# Altium integrated library Linear Technology Power Management LDO Linear Regulators.IntLib: 2339 symbols (part 120 of 131)
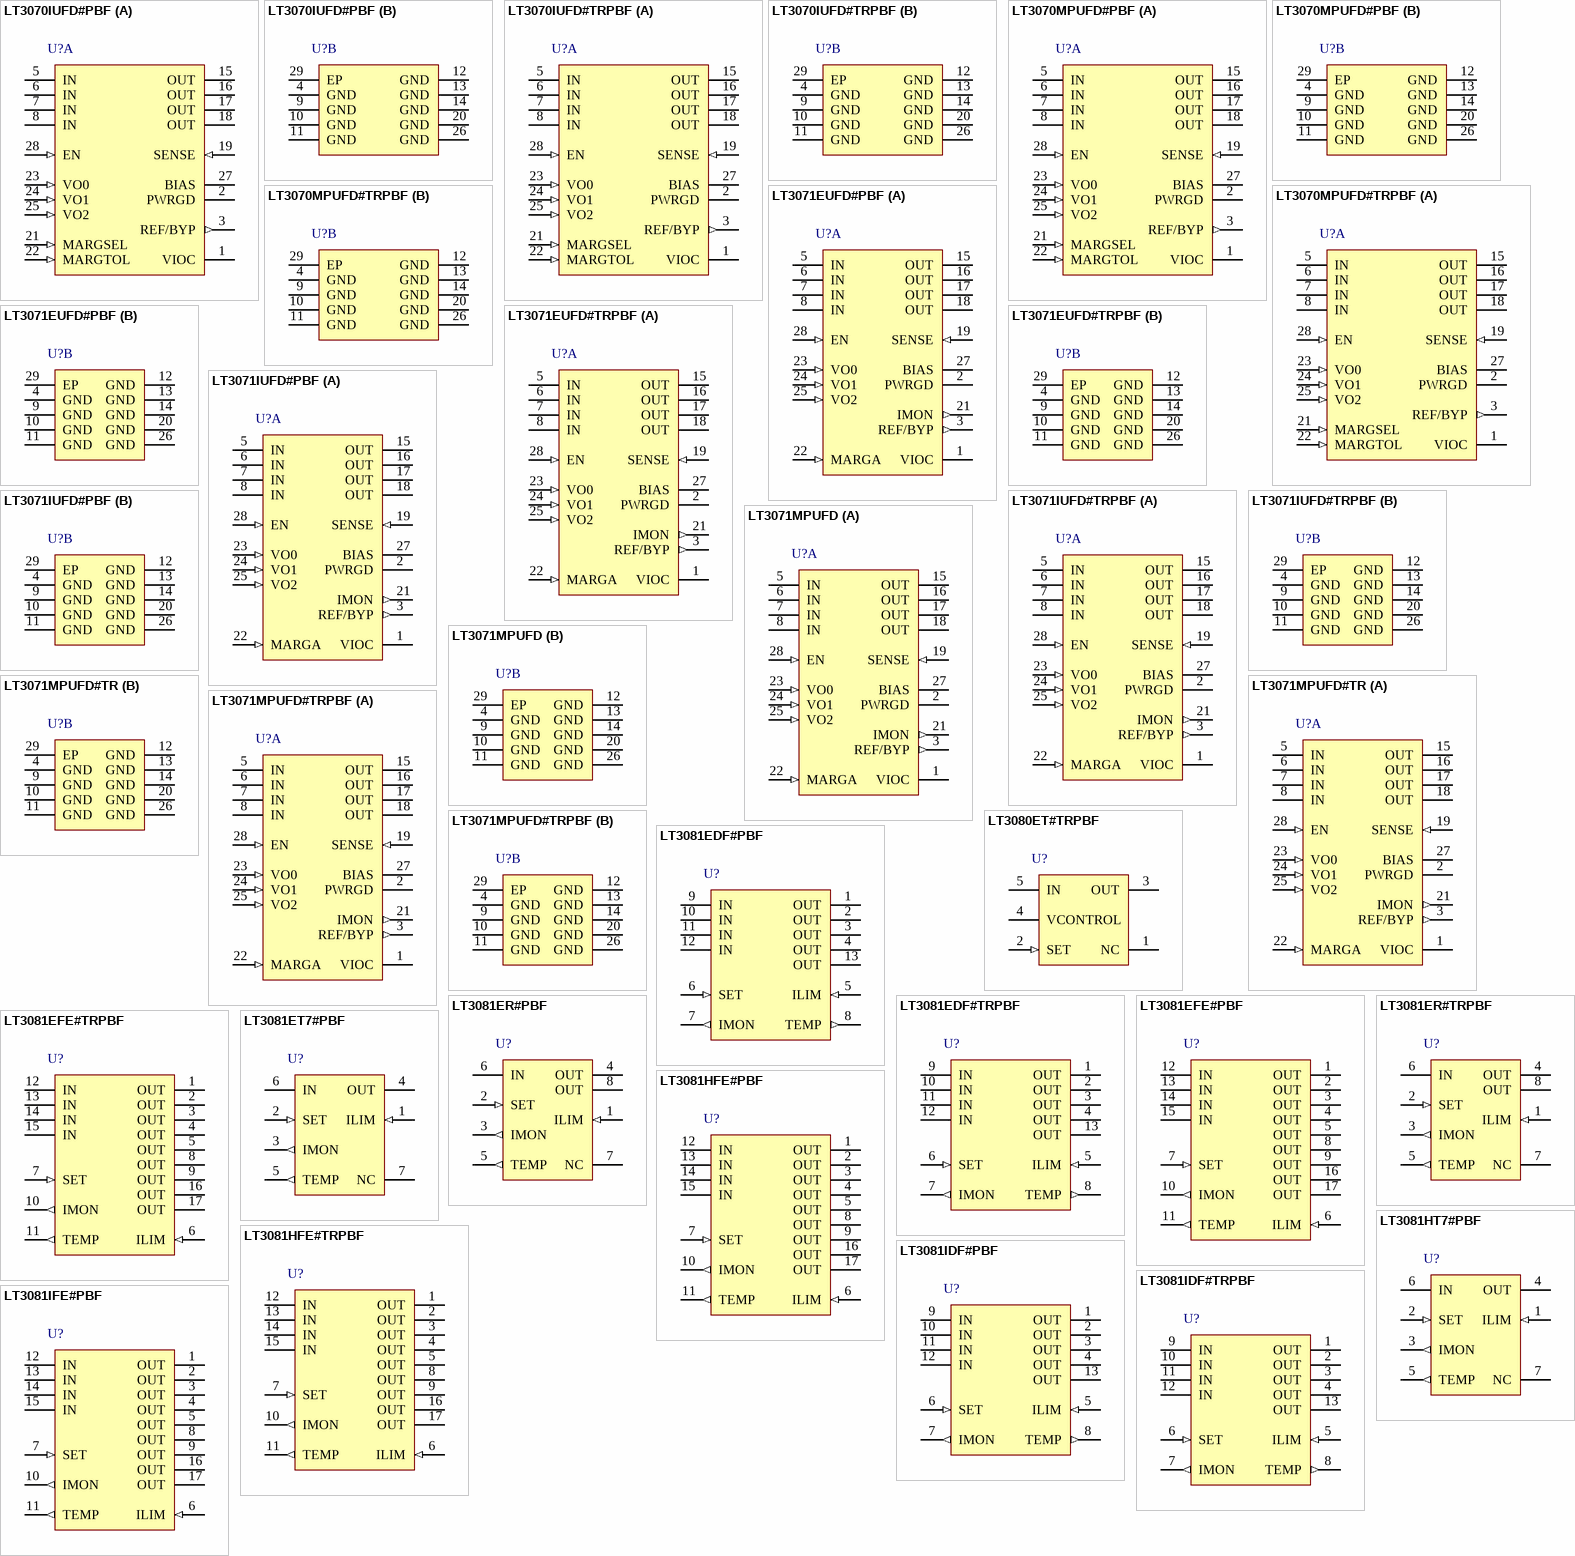
[diagram p188: symbols LT3070IUFD#PBF to LT3081IFE#PBF]

## LT3071MPUFD
designator U?
5 A, Low Noise, Programmable Output, 85 mV Dropout Linear Regulator with Analog Margining, 0.95 to 3 V Vin, Adjustable Vout, 28-pin QFN (UFD-28), -55 to 125 degC; Manufacturer: Linear Technology; PartNumber: LT3071MPUFD; Discrete Pass Element: no; Dropout Voltage(V): 0.085; Iout(mA): 5000; Isupply(mA): 1.35; Noise(uV): 25; Number of Outputs: 1; Output Voltage: Adj; PSRR(dB): 30; Vin Max(V): 3; Vin Min(V): 0.95; Vout Max(V): 1.8; Vout Min(V): 0.8; DatasheetVersion: Rev. B; PackageVersion: Rev. B, 06/2010; PackageReference: UFD-28; PackageDescription: 28-Pin Plastic QFN, Body 5 x 4 mm, Pitch 0.5 mm; RoHS: FALSE; Mounting Technology: Surface Mount; Code_JEDEC: MO-220; ComponentLink1Description: Manufacturer URL; ComponentLink1URL: http://www.linear.com/; ComponentLink2Description: Datasheet; ComponentLink2URL: http://cds.linear.com/docs/en/datasheet/3071fb.pdf; ComponentLink3Description: Package Specification; ComponentLink3URL: http://cds.linear.com/docs/en/packaging/QFN_28_05-08-1712.pdf
footprint LT-UFD-28_N (QFN, 28-Leads, Body 5x4mm, Pitch 0.5mm, Thermal Pad 3.65x2.65mm, IPC Medium Density)
footprint LT-UFD-28_L (QFN, 28-Leads, Body 5x4mm, Pitch 0.5mm, Thermal Pad 3.65x2.65mm, IPC High Density)
footprint LT-UFD-28_M (QFN, 28-Leads, Body 5x4mm, Pitch 0.5mm, Thermal Pad 3.65x2.65mm, IPC Low Density)
part A pins: 1 VIOC (power) "Voltage for In-to-Out Control. The IC incorporates a unique tracking function to control a buck regulator powering the LT3071’s input. The VIOC pin is the output of this tracking function that drives the buck regulator t(See Datasheet)", 2 PWRGD (oc) "Power Good. The PWRGD pin is an open-drain NMOS output that actively pulls low if any one of these fault modes is detected: ?VOUT is less than 90% of VOUT(NOMINAL) on the rising edge of VOUT . ?VOUT drops below 85%(See Datasheet)", 3 REF/BYP (out) "Reference Filter. The pin is the output of the bandgap reference and has an impedance of approximately 19kohm. This pin must not be externally loaded. Bypassing the REF/BYP pin to GND with a 10nF capacitor decreases output (See Datasheet)", 5 IN (power) "Input Supply. These pins supply power to the high current pass transistor. Tie all IN pins together for proper performance. The LT3071 requires a bypass capacitor at IN to maintain stability and low input impedance over (See Datasheet)", 6 IN (power) "Input Supply. These pins supply power to the high current pass transistor. Tie all IN pins together for proper performance. The LT3071 requires a bypass capacitor at IN to maintain stability and low input impedance over (See Datasheet)", 7 IN (power) "Input Supply. These pins supply power to the high current pass transistor. Tie all IN pins together for proper performance. The LT3071 requires a bypass capacitor at IN to maintain stability and low input impedance over (See Datasheet)", 8 IN (power) "Input Supply. These pins supply power to the high current pass transistor. Tie all IN pins together for proper performance. The LT3071 requires a bypass capacitor at IN to maintain stability and low input impedance over (See Datasheet)", 15 OUT (power) "Output. These pins supply power to the load. Tie all OUT pins together for proper performance. A minimum output capacitance of 15uF is required for stability. LTC recommends low ESR, X5R or X7R dielectric ceramic capacitors (See Datasheet)", 16 OUT (power) "Output. These pins supply power to the load. Tie all OUT pins together for proper performance. A minimum output capacitance of 15uF is required for stability. LTC recommends low ESR, X5R or X7R dielectric ceramic capacitors (See Datasheet)", 17 OUT (power) "Output. These pins supply power to the load. Tie all OUT pins together for proper performance. A minimum output capacitance of 15uF is required for stability. LTC recommends low ESR, X5R or X7R dielectric ceramic capacitors (See Datasheet)", 18 OUT (power) "Output. These pins supply power to the load. Tie all OUT pins together for proper performance. A minimum output capacitance of 15uF is required for stability. LTC recommends low ESR, X5R or X7R dielectric ceramic capacitors (See Datasheet)", 19 SENSE (in) "Kelvin Sense for OUT . The SENSE pin is the inverting input to the error amplifier. Optimum regulation is obtained when the SENSE pin is connected to the OUT pins of the regulator. In critical applications, the resistance (See Datasheet)", 21 IMON (out) "Output Current Monitor. The IMON pin sources a current typically equal to IOUT/2500 or 400uA per amp of output current. Terminating this pin with a resistor to GND produces a voltage proportional to IOUT . For example, at (See Datasheet)", 22 MARGA (in) "Analog Margining. This pin margins the output voltage over a continuous analog range of +/-10%. Tying this pin to GND adjusts output voltage by -10%. Driving this pin to 1.2V adjusts output voltage by +10%. A voltage source (See Datasheet)", 23 VO0 (in) "Output Voltage Select. These three-state pins combine to select a nominal output voltage from 0.8V to 1.8V in increments of 50mV. Output voltage is limited to 1.8V maximum by an internal override of VO1 when VO2 = high. The (See Datasheet)", 24 VO1 (in) "Output Voltage Select. These three-state pins combine to select a nominal output voltage from 0.8V to 1.8V in increments of 50mV. Output voltage is limited to 1.8V maximum by an internal override of VO1 when VO2 = high. The (See Datasheet)", 25 VO2 (in) "Output Voltage Select. These three-state pins combine to select a nominal output voltage from 0.8V to 1.8V in increments of 50mV. Output voltage is limited to 1.8V maximum by an internal override of VO1 when VO2 = high. The (See Datasheet)", 27 BIAS (power) "Bias Supply. This pin supplies current to the internal control circuitry and the output stage driving the pass transistor. The LT3071 requires a minimum 2.2uF bypass capacitor for stability and proper operation. To ensure (See Datasheet)", 28 EN (in) "Enable. This pin enables/disables the output device only. The internal reference and all support functions are active if VBIAS is above its UVLO threshold. Pulling EN low keeps the reference circuit active, but disables the (See Datasheet)"
part B pins: 4 GND (power) "Ground. The exposed pad of the QFN package is an electrical connection to GND. To ensure proper electrical and thermal performance, solder Pin 29 to the PCB ground and tie to all GND pins of the package. These GND pins are (See Datasheet)", 9 GND (power) "Ground. The exposed pad of the QFN package is an electrical connection to GND. To ensure proper electrical and thermal performance, solder Pin 29 to the PCB ground and tie to all GND pins of the package. These GND pins are (See Datasheet)", 10 GND (power) "Ground. The exposed pad of the QFN package is an electrical connection to GND. To ensure proper electrical and thermal performance, solder Pin 29 to the PCB ground and tie to all GND pins of the package. These GND pins are (See Datasheet)", 11 GND (power) "Ground. The exposed pad of the QFN package is an electrical connection to GND. To ensure proper electrical and thermal performance, solder Pin 29 to the PCB ground and tie to all GND pins of the package. These GND pins are (See Datasheet)", 12 GND (power) "Ground. The exposed pad of the QFN package is an electrical connection to GND. To ensure proper electrical and thermal performance, solder Pin 29 to the PCB ground and tie to all GND pins of the package. These GND pins are (See Datasheet)", 13 GND (power) "Ground. The exposed pad of the QFN package is an electrical connection to GND. To ensure proper electrical and thermal performance, solder Pin 29 to the PCB ground and tie to all GND pins of the package. These GND pins are (See Datasheet)", 14 GND (power) "Ground. The exposed pad of the QFN package is an electrical connection to GND. To ensure proper electrical and thermal performance, solder Pin 29 to the PCB ground and tie to all GND pins of the package. These GND pins are (See Datasheet)", 20 GND (power) "Ground. The exposed pad of the QFN package is an electrical connection to GND. To ensure proper electrical and thermal performance, solder Pin 29 to the PCB ground and tie to all GND pins of the package. These GND pins are (See Datasheet)", 26 GND (power) "Ground. The exposed pad of the QFN package is an electrical connection to GND. To ensure proper electrical and thermal performance, solder Pin 29 to the PCB ground and tie to all GND pins of the package. These GND pins are (See Datasheet)", 29 EP (power) "Ground. The exposed pad of the QFN package is an electrical connection to GND. To ensure proper electrical and thermal performance, solder Pin 29 to the PCB ground and tie to all GND pins of the package. These GND pins are (See Datasheet)"

## LT3071MPUFD#TR
designator U?
5 A, Low Noise, Programmable Output, 85 mV Dropout Linear Regulator with Analog Margining, 0.95 to 3 V Vin, Adjustable Vout, 28-pin QFN (UFD-28), -55 to 125 degC, Tape and Reel; Manufacturer: Linear Technology; PartNumber: LT3071MPUFD#TR; Discrete Pass Element: no; Dropout Voltage(V): 0.085; Iout(mA): 5000; Isupply(mA): 1.35; Noise(uV): 25; Number of Outputs: 1; Output Voltage: Adj; PSRR(dB): 30; Vin Max(V): 3; Vin Min(V): 0.95; Vout Max(V): 1.8; Vout Min(V): 0.8; DatasheetVersion: Rev. B; PackageVersion: Rev. B, 06/2010; PackageReference: UFD-28; PackageDescription: 28-Pin Plastic QFN, Body 5 x 4 mm, Pitch 0.5 mm; Packing: Tape and Reel; RoHS: FALSE; Mounting Technology: Surface Mount; Code_JEDEC: MO-220; ComponentLink1Description: Manufacturer URL; ComponentLink1URL: http://www.linear.com/; ComponentLink2Description: Datasheet; ComponentLink2URL: http://cds.linear.com/docs/en/datasheet/3071fb.pdf; ComponentLink3Description: Package Specification; ComponentLink3URL: http://cds.linear.com/docs/en/packaging/QFN_28_05-08-1712.pdf
footprint LT-UFD-28_N (QFN, 28-Leads, Body 5x4mm, Pitch 0.5mm, Thermal Pad 3.65x2.65mm, IPC Medium Density)
footprint LT-UFD-28_L (QFN, 28-Leads, Body 5x4mm, Pitch 0.5mm, Thermal Pad 3.65x2.65mm, IPC High Density)
footprint LT-UFD-28_M (QFN, 28-Leads, Body 5x4mm, Pitch 0.5mm, Thermal Pad 3.65x2.65mm, IPC Low Density)
part A pins: 1 VIOC (power) "Voltage for In-to-Out Control. The IC incorporates a unique tracking function to control a buck regulator powering the LT3071’s input. The VIOC pin is the output of this tracking function that drives the buck regulator t(See Datasheet)", 2 PWRGD (oc) "Power Good. The PWRGD pin is an open-drain NMOS output that actively pulls low if any one of these fault modes is detected: ?VOUT is less than 90% of VOUT(NOMINAL) on the rising edge of VOUT . ?VOUT drops below 85%(See Datasheet)", 3 REF/BYP (out) "Reference Filter. The pin is the output of the bandgap reference and has an impedance of approximately 19kohm. This pin must not be externally loaded. Bypassing the REF/BYP pin to GND with a 10nF capacitor decreases output (See Datasheet)", 5 IN (power) "Input Supply. These pins supply power to the high current pass transistor. Tie all IN pins together for proper performance. The LT3071 requires a bypass capacitor at IN to maintain stability and low input impedance over (See Datasheet)", 6 IN (power) "Input Supply. These pins supply power to the high current pass transistor. Tie all IN pins together for proper performance. The LT3071 requires a bypass capacitor at IN to maintain stability and low input impedance over (See Datasheet)", 7 IN (power) "Input Supply. These pins supply power to the high current pass transistor. Tie all IN pins together for proper performance. The LT3071 requires a bypass capacitor at IN to maintain stability and low input impedance over (See Datasheet)", 8 IN (power) "Input Supply. These pins supply power to the high current pass transistor. Tie all IN pins together for proper performance. The LT3071 requires a bypass capacitor at IN to maintain stability and low input impedance over (See Datasheet)", 15 OUT (power) "Output. These pins supply power to the load. Tie all OUT pins together for proper performance. A minimum output capacitance of 15uF is required for stability. LTC recommends low ESR, X5R or X7R dielectric ceramic capacitors (See Datasheet)", 16 OUT (power) "Output. These pins supply power to the load. Tie all OUT pins together for proper performance. A minimum output capacitance of 15uF is required for stability. LTC recommends low ESR, X5R or X7R dielectric ceramic capacitors (See Datasheet)", 17 OUT (power) "Output. These pins supply power to the load. Tie all OUT pins together for proper performance. A minimum output capacitance of 15uF is required for stability. LTC recommends low ESR, X5R or X7R dielectric ceramic capacitors (See Datasheet)", 18 OUT (power) "Output. These pins supply power to the load. Tie all OUT pins together for proper performance. A minimum output capacitance of 15uF is required for stability. LTC recommends low ESR, X5R or X7R dielectric ceramic capacitors (See Datasheet)", 19 SENSE (in) "Kelvin Sense for OUT . The SENSE pin is the inverting input to the error amplifier. Optimum regulation is obtained when the SENSE pin is connected to the OUT pins of the regulator. In critical applications, the resistance (See Datasheet)", 21 IMON (out) "Output Current Monitor. The IMON pin sources a current typically equal to IOUT/2500 or 400uA per amp of output current. Terminating this pin with a resistor to GND produces a voltage proportional to IOUT . For example, at (See Datasheet)", 22 MARGA (in) "Analog Margining. This pin margins the output voltage over a continuous analog range of +/-10%. Tying this pin to GND adjusts output voltage by -10%. Driving this pin to 1.2V adjusts output voltage by +10%. A voltage source (See Datasheet)", 23 VO0 (in) "Output Voltage Select. These three-state pins combine to select a nominal output voltage from 0.8V to 1.8V in increments of 50mV. Output voltage is limited to 1.8V maximum by an internal override of VO1 when VO2 = high. The (See Datasheet)", 24 VO1 (in) "Output Voltage Select. These three-state pins combine to select a nominal output voltage from 0.8V to 1.8V in increments of 50mV. Output voltage is limited to 1.8V maximum by an internal override of VO1 when VO2 = high. The (See Datasheet)", 25 VO2 (in) "Output Voltage Select. These three-state pins combine to select a nominal output voltage from 0.8V to 1.8V in increments of 50mV. Output voltage is limited to 1.8V maximum by an internal override of VO1 when VO2 = high. The (See Datasheet)", 27 BIAS (power) "Bias Supply. This pin supplies current to the internal control circuitry and the output stage driving the pass transistor. The LT3071 requires a minimum 2.2uF bypass capacitor for stability and proper operation. To ensure (See Datasheet)", 28 EN (in) "Enable. This pin enables/disables the output device only. The internal reference and all support functions are active if VBIAS is above its UVLO threshold. Pulling EN low keeps the reference circuit active, but disables the (See Datasheet)"
part B pins: 4 GND (power) "Ground. The exposed pad of the QFN package is an electrical connection to GND. To ensure proper electrical and thermal performance, solder Pin 29 to the PCB ground and tie to all GND pins of the package. These GND pins are (See Datasheet)", 9 GND (power) "Ground. The exposed pad of the QFN package is an electrical connection to GND. To ensure proper electrical and thermal performance, solder Pin 29 to the PCB ground and tie to all GND pins of the package. These GND pins are (See Datasheet)", 10 GND (power) "Ground. The exposed pad of the QFN package is an electrical connection to GND. To ensure proper electrical and thermal performance, solder Pin 29 to the PCB ground and tie to all GND pins of the package. These GND pins are (See Datasheet)", 11 GND (power) "Ground. The exposed pad of the QFN package is an electrical connection to GND. To ensure proper electrical and thermal performance, solder Pin 29 to the PCB ground and tie to all GND pins of the package. These GND pins are (See Datasheet)", 12 GND (power) "Ground. The exposed pad of the QFN package is an electrical connection to GND. To ensure proper electrical and thermal performance, solder Pin 29 to the PCB ground and tie to all GND pins of the package. These GND pins are (See Datasheet)", 13 GND (power) "Ground. The exposed pad of the QFN package is an electrical connection to GND. To ensure proper electrical and thermal performance, solder Pin 29 to the PCB ground and tie to all GND pins of the package. These GND pins are (See Datasheet)", 14 GND (power) "Ground. The exposed pad of the QFN package is an electrical connection to GND. To ensure proper electrical and thermal performance, solder Pin 29 to the PCB ground and tie to all GND pins of the package. These GND pins are (See Datasheet)", 20 GND (power) "Ground. The exposed pad of the QFN package is an electrical connection to GND. To ensure proper electrical and thermal performance, solder Pin 29 to the PCB ground and tie to all GND pins of the package. These GND pins are (See Datasheet)", 26 GND (power) "Ground. The exposed pad of the QFN package is an electrical connection to GND. To ensure proper electrical and thermal performance, solder Pin 29 to the PCB ground and tie to all GND pins of the package. These GND pins are (See Datasheet)", 29 EP (power) "Ground. The exposed pad of the QFN package is an electrical connection to GND. To ensure proper electrical and thermal performance, solder Pin 29 to the PCB ground and tie to all GND pins of the package. These GND pins are (See Datasheet)"

## LT3071MPUFD#TRPBF
designator U?
5 A, Low Noise, Programmable Output, 85 mV Dropout Linear Regulator with Analog Margining, 0.95 to 3 V Vin, Adjustable Vout, 28-pin QFN (UFD-28), -55 to 125 degC, Pb-Free, Tape and Reel; Manufacturer: Linear Technology; PartNumber: LT3071MPUFD#TRPBF; Discrete Pass Element: no; Dropout Voltage(V): 0.085; Iout(mA): 5000; Isupply(mA): 1.35; Noise(uV): 25; Number of Outputs: 1; Output Voltage: Adj; PSRR(dB): 30; Vin Max(V): 3; Vin Min(V): 0.95; Vout Max(V): 1.8; Vout Min(V): 0.8; DatasheetVersion: Rev. B; PackageVersion: Rev. B, 06/2010; PackageReference: UFD-28; PackageDescription: 28-Pin Plastic QFN, Body 5 x 4 mm, Pitch 0.5 mm; Supplier 1: Digi-Key; Supplier Part Number 1: LT3071MPUFD#TRPBF-ND; Packing: Tape and Reel; RoHS: TRUE; Mounting Technology: Surface Mount; Code_JEDEC: MO-220; ComponentLink1Description: Manufacturer URL; ComponentLink1URL: http://www.linear.com/; ComponentLink2Description: Datasheet; ComponentLink2URL: http://cds.linear.com/docs/en/datasheet/3071fb.pdf; ComponentLink3Description: Package Specification; ComponentLink3URL: http://cds.linear.com/docs/en/packaging/QFN_28_05-08-1712.pdf
footprint LT-UFD-28_N (QFN, 28-Leads, Body 5x4mm, Pitch 0.5mm, Thermal Pad 3.65x2.65mm, IPC Medium Density)
footprint LT-UFD-28_L (QFN, 28-Leads, Body 5x4mm, Pitch 0.5mm, Thermal Pad 3.65x2.65mm, IPC High Density)
footprint LT-UFD-28_M (QFN, 28-Leads, Body 5x4mm, Pitch 0.5mm, Thermal Pad 3.65x2.65mm, IPC Low Density)
part A pins: 1 VIOC (power) "Voltage for In-to-Out Control. The IC incorporates a unique tracking function to control a buck regulator powering the LT3071’s input. The VIOC pin is the output of this tracking function that drives the buck regulator t(See Datasheet)", 2 PWRGD (oc) "Power Good. The PWRGD pin is an open-drain NMOS output that actively pulls low if any one of these fault modes is detected: ?VOUT is less than 90% of VOUT(NOMINAL) on the rising edge of VOUT . ?VOUT drops below 85%(See Datasheet)", 3 REF/BYP (out) "Reference Filter. The pin is the output of the bandgap reference and has an impedance of approximately 19kohm. This pin must not be externally loaded. Bypassing the REF/BYP pin to GND with a 10nF capacitor decreases output (See Datasheet)", 5 IN (power) "Input Supply. These pins supply power to the high current pass transistor. Tie all IN pins together for proper performance. The LT3071 requires a bypass capacitor at IN to maintain stability and low input impedance over (See Datasheet)", 6 IN (power) "Input Supply. These pins supply power to the high current pass transistor. Tie all IN pins together for proper performance. The LT3071 requires a bypass capacitor at IN to maintain stability and low input impedance over (See Datasheet)", 7 IN (power) "Input Supply. These pins supply power to the high current pass transistor. Tie all IN pins together for proper performance. The LT3071 requires a bypass capacitor at IN to maintain stability and low input impedance over (See Datasheet)", 8 IN (power) "Input Supply. These pins supply power to the high current pass transistor. Tie all IN pins together for proper performance. The LT3071 requires a bypass capacitor at IN to maintain stability and low input impedance over (See Datasheet)", 15 OUT (power) "Output. These pins supply power to the load. Tie all OUT pins together for proper performance. A minimum output capacitance of 15uF is required for stability. LTC recommends low ESR, X5R or X7R dielectric ceramic capacitors (See Datasheet)", 16 OUT (power) "Output. These pins supply power to the load. Tie all OUT pins together for proper performance. A minimum output capacitance of 15uF is required for stability. LTC recommends low ESR, X5R or X7R dielectric ceramic capacitors (See Datasheet)", 17 OUT (power) "Output. These pins supply power to the load. Tie all OUT pins together for proper performance. A minimum output capacitance of 15uF is required for stability. LTC recommends low ESR, X5R or X7R dielectric ceramic capacitors (See Datasheet)", 18 OUT (power) "Output. These pins supply power to the load. Tie all OUT pins together for proper performance. A minimum output capacitance of 15uF is required for stability. LTC recommends low ESR, X5R or X7R dielectric ceramic capacitors (See Datasheet)", 19 SENSE (in) "Kelvin Sense for OUT . The SENSE pin is the inverting input to the error amplifier. Optimum regulation is obtained when the SENSE pin is connected to the OUT pins of the regulator. In critical applications, the resistance (See Datasheet)", 21 IMON (out) "Output Current Monitor. The IMON pin sources a current typically equal to IOUT/2500 or 400uA per amp of output current. Terminating this pin with a resistor to GND produces a voltage proportional to IOUT . For example, at (See Datasheet)", 22 MARGA (in) "Analog Margining. This pin margins the output voltage over a continuous analog range of +/-10%. Tying this pin to GND adjusts output voltage by -10%. Driving this pin to 1.2V adjusts output voltage by +10%. A voltage source (See Datasheet)", 23 VO0 (in) "Output Voltage Select. These three-state pins combine to select a nominal output voltage from 0.8V to 1.8V in increments of 50mV. Output voltage is limited to 1.8V maximum by an internal override of VO1 when VO2 = high. The (See Datasheet)", 24 VO1 (in) "Output Voltage Select. These three-state pins combine to select a nominal output voltage from 0.8V to 1.8V in increments of 50mV. Output voltage is limited to 1.8V maximum by an internal override of VO1 when VO2 = high. The (See Datasheet)", 25 VO2 (in) "Output Voltage Select. These three-state pins combine to select a nominal output voltage from 0.8V to 1.8V in increments of 50mV. Output voltage is limited to 1.8V maximum by an internal override of VO1 when VO2 = high. The (See Datasheet)", 27 BIAS (power) "Bias Supply. This pin supplies current to the internal control circuitry and the output stage driving the pass transistor. The LT3071 requires a minimum 2.2uF bypass capacitor for stability and proper operation. To ensure (See Datasheet)", 28 EN (in) "Enable. This pin enables/disables the output device only. The internal reference and all support functions are active if VBIAS is above its UVLO threshold. Pulling EN low keeps the reference circuit active, but disables the (See Datasheet)"
part B pins: 4 GND (power) "Ground. The exposed pad of the QFN package is an electrical connection to GND. To ensure proper electrical and thermal performance, solder Pin 29 to the PCB ground and tie to all GND pins of the package. These GND pins are (See Datasheet)", 9 GND (power) "Ground. The exposed pad of the QFN package is an electrical connection to GND. To ensure proper electrical and thermal performance, solder Pin 29 to the PCB ground and tie to all GND pins of the package. These GND pins are (See Datasheet)", 10 GND (power) "Ground. The exposed pad of the QFN package is an electrical connection to GND. To ensure proper electrical and thermal performance, solder Pin 29 to the PCB ground and tie to all GND pins of the package. These GND pins are (See Datasheet)", 11 GND (power) "Ground. The exposed pad of the QFN package is an electrical connection to GND. To ensure proper electrical and thermal performance, solder Pin 29 to the PCB ground and tie to all GND pins of the package. These GND pins are (See Datasheet)", 12 GND (power) "Ground. The exposed pad of the QFN package is an electrical connection to GND. To ensure proper electrical and thermal performance, solder Pin 29 to the PCB ground and tie to all GND pins of the package. These GND pins are (See Datasheet)", 13 GND (power) "Ground. The exposed pad of the QFN package is an electrical connection to GND. To ensure proper electrical and thermal performance, solder Pin 29 to the PCB ground and tie to all GND pins of the package. These GND pins are (See Datasheet)", 14 GND (power) "Ground. The exposed pad of the QFN package is an electrical connection to GND. To ensure proper electrical and thermal performance, solder Pin 29 to the PCB ground and tie to all GND pins of the package. These GND pins are (See Datasheet)", 20 GND (power) "Ground. The exposed pad of the QFN package is an electrical connection to GND. To ensure proper electrical and thermal performance, solder Pin 29 to the PCB ground and tie to all GND pins of the package. These GND pins are (See Datasheet)", 26 GND (power) "Ground. The exposed pad of the QFN package is an electrical connection to GND. To ensure proper electrical and thermal performance, solder Pin 29 to the PCB ground and tie to all GND pins of the package. These GND pins are (See Datasheet)", 29 EP (power) "Ground. The exposed pad of the QFN package is an electrical connection to GND. To ensure proper electrical and thermal performance, solder Pin 29 to the PCB ground and tie to all GND pins of the package. These GND pins are (See Datasheet)"

## LT3080ET#TRPBF
designator U?
1.1 A Single Resistor Low Dropout Regulator, 1.2 to 36 V Vin, Adjustable Vout, 5-pin FM (T-5), -40 to 125 degC, Pb-Free, Tape and Reel; Manufacturer: Linear Technology; PartNumber: LT3080ET#TRPBF; Discrete Pass Element: no; Dropout Voltage(V): 0.35; Iout(mA): 1100; Isupply(mA): 0.3; Noise(uV): 40; Number of Outputs: 1; Output Voltage: Adj; PSRR(dB): 30; Vin Max(V): 36; Vin Min(V): 1.2; Vout Min(V): 0; DatasheetVersion: Rev. F; PackageVersion: Aug-10; PackageReference: T-5; PackageDescription: 5-Pin Plastic TO-220 (Standard), Body 10.224 x 8.89 mm, Pitch 1.7 mm; Packing: Tape and Reel; RoHS: TRUE; Vout Max(V): 30; Mounting Technology: Through Hole; ComponentLink1Description: Manufacturer URL; ComponentLink1URL: http://www.linear.com/; ComponentLink2Description: Datasheet; ComponentLink2URL: http://cds.linear.com/docs/en/datasheet/3080fc.pdf; ComponentLink3Description: Package Specification; ComponentLink3URL: http://cds.linear.com/docs/en/packaging/TO-220_5_05-08-1421.pdf
footprint LT-T-5-S (FM, 5-Leads, Body 10.2235x4.3815mm, Pitch 1.7mm)
pins: 1 NC "No Connection. No connect pins have no connection to internal circuitry and may be tied to VIN, VCONTROL, VOUT , GND or floated.", 2 SET (in) "This pin is the input to the error amplifier and the regulation set point for the device. A fixed current of 10uA flows out of this pin through a single external resistor, which programs the output voltage of the device. (See Datasheet)", 3 OUT (power) "This is the power output of the device. There must be a minimum load current of 1mA or the output may not regulate.", 4 VCONTROL (power) "This pin is the supply pin for the control circuitry of the device. The current flow into this pin is about 1.7% of the output current. For the device to regulate, this voltage must be more than 1.2V to 1.35V greater than (See Datasheet)", 5 IN (power) "This is the collector to the power device of the LT3080. The output load current is supplied through this pin. For the device to regulate, the voltage at this pin must be more than 0.1V to 0.5V greater than the output (See Datasheet)"

## LT3081EDF#PBF
designator U?
1.5 A Single Resistor Rugged Linear Regulator with Monitor, 1.2 to 36 V Vin, Adjustable Vout, 12-pin SON (DF-12), -40 to 125 degC, Pb-Free; Manufacturer: Linear Technology; PartNumber: LT3081EDF#PBF; Discrete Pass Element: no; Dropout Voltage(V): 1.21; Iout(mA): 1500; Isupply(mA): 1.1; Noise(uV): 27; Number of Outputs: 1; Output Voltage: Adj; PSRR(dB): 90; Vin Max(V): 36; Vin Min(V): 1.2; Vout Max(V): 34.5; Vout Min(V): 0; PackageVersion: Rev. Ø, 06/2010; PackageReference: DF-12; PackageDescription: 12-Pin Plastic DFN, Body 4 x 4 mm, Pitch 0.5 mm; Supplier 1: Digi-Key; Supplier Part Number 1: LT3081EDF#PBF-ND; Supplier 2: Newark; Supplier Part Number 2: 94W8438; RoHS: TRUE; Mounting Technology: Surface Mount; Code_JEDEC: MO-220; ComponentLink1Description: Manufacturer URL; ComponentLink1URL: http://www.linear.com/; ComponentLink2Description: Datasheet; ComponentLink2URL: http://cds.linear.com/docs/en/datasheet/3081f.pdf; ComponentLink3Description: Package Specification; ComponentLink3URL: http://cds.linear.com/docs/Packaging/DFN_12_05-08-1733.pdf
footprint LT-DF-12_V (SON, 12-Leads, Body 4x4mm, Pitch 0.5mm, Thermal Pad 2.65x3.38mm)
pins: 1 OUT (power) "Output. This is the power output of the device. The LT3081 requires a 5mA minimum load current for proper output regulation.", 2 OUT (power) "Output. This is the power output of the device. The LT3081 requires a 5mA minimum load current for proper output regulation.", 3 OUT (power) "Output. This is the power output of the device. The LT3081 requires a 5mA minimum load current for proper output regulation.", 4 OUT (power) "Output. This is the power output of the device. The LT3081 requires a 5mA minimum load current for proper output regulation.", 5 ILIM (in) "Current Limit Program. A resistor between this pin and OUT programs output current limit to a level proportional to resistor value. Connect this resistor directly to OUT at the pins of the package. The typical ratio of (See Datasheet)", 6 SET (in) "Set. This pin is the error amplifier's noninverting input and also sets the operating bias point of the circuit. A fixed 50uA current source flows out of this pin. A single external resistor programs VOUT. Output voltag(See Datasheet)", 7 IMON (out) "Output Current Monitor. The IMON pin sources a current typically equal to ILOAD/5000 or 200uA per amp of output current. Terminating this pin with a resistor to GND produces a voltage proportional to ILOAD. For example, at (See Datasheet)", 8 TEMP (out) "Temperature Output. This pin delivers a current proportional to the internal average junction temperature. Current output is 1uA/degreesC for temperatures above 5degreesC. The TEMP pin output current typically equals 25uA at (See Datasheet)", 9 IN (power) "Input. This pin supplies power to regulate internal circuitry and supply output load current. For the device to operate properly and regulate, the voltage on this pin must be between the dropout voltage and 36V above the OUT (See Datasheet)", 10 IN (power) "Input. This pin supplies power to regulate internal circuitry and supply output load current. For the device to operate properly and regulate, the voltage on this pin must be between the dropout voltage and 36V above the OUT (See Datasheet)", 11 IN (power) "Input. This pin supplies power to regulate internal circuitry and supply output load current. For the device to operate properly and regulate, the voltage on this pin must be between the dropout voltage and 36V above the OUT (See Datasheet)", 12 IN (power) "Input. This pin supplies power to regulate internal circuitry and supply output load current. For the device to operate properly and regulate, the voltage on this pin must be between the dropout voltage and 36V above the OUT (See Datasheet)", 13 OUT (power) "Output. The exposed pad of the DF and FE packages and the tab of the R and T7 packages are tied internally to OUT. As such, tie them directly to OUT (Pins 1-4/Pins 1-5, 8, 9, 16/Pin 4/Pin 4) at the PCB. The amount of copper (See Datasheet)"

## LT3081EDF#TRPBF
designator U?
1.5 A Single Resistor Rugged Linear Regulator with Monitor, 1.2 to 36 V Vin, Adjustable Vout, 12-pin SON (DF-12), -40 to 125 degC, Pb-Free, Tape and Reel; Manufacturer: Linear Technology; PartNumber: LT3081EDF#TRPBF; Discrete Pass Element: no; Dropout Voltage(V): 1.21; Iout(mA): 1500; Isupply(mA): 1.1; Noise(uV): 27; Number of Outputs: 1; Output Voltage: Adj; PSRR(dB): 90; Vin Max(V): 36; Vin Min(V): 1.2; Vout Max(V): 34.5; Vout Min(V): 0; PackageVersion: Rev. Ø, 06/2010; PackageReference: DF-12; PackageDescription: 12-Pin Plastic DFN, Body 4 x 4 mm, Pitch 0.5 mm; Supplier 1: Digi-Key; Supplier Part Number 1: LT3081EDF#TRPBF-ND; Supplier 2: Newark; Supplier Part Number 2: 94W8439; Packing: Tape and Reel; RoHS: TRUE; Mounting Technology: Surface Mount; Code_JEDEC: MO-220; ComponentLink1Description: Manufacturer URL; ComponentLink1URL: http://www.linear.com/; ComponentLink2Description: Datasheet; ComponentLink2URL: http://cds.linear.com/docs/en/datasheet/3081f.pdf; ComponentLink3Description: Package Specification; ComponentLink3URL: http://cds.linear.com/docs/Packaging/DFN_12_05-08-1733.pdf
footprint LT-DF-12_V (SON, 12-Leads, Body 4x4mm, Pitch 0.5mm, Thermal Pad 2.65x3.38mm)
pins: 1 OUT (power) "Output. This is the power output of the device. The LT3081 requires a 5mA minimum load current for proper output regulation.", 2 OUT (power) "Output. This is the power output of the device. The LT3081 requires a 5mA minimum load current for proper output regulation.", 3 OUT (power) "Output. This is the power output of the device. The LT3081 requires a 5mA minimum load current for proper output regulation.", 4 OUT (power) "Output. This is the power output of the device. The LT3081 requires a 5mA minimum load current for proper output regulation.", 5 ILIM (in) "Current Limit Program. A resistor between this pin and OUT programs output current limit to a level proportional to resistor value. Connect this resistor directly to OUT at the pins of the package. The typical ratio of (See Datasheet)", 6 SET (in) "Set. This pin is the error amplifier's noninverting input and also sets the operating bias point of the circuit. A fixed 50uA current source flows out of this pin. A single external resistor programs VOUT. Output voltag(See Datasheet)", 7 IMON (out) "Output Current Monitor. The IMON pin sources a current typically equal to ILOAD/5000 or 200uA per amp of output current. Terminating this pin with a resistor to GND produces a voltage proportional to ILOAD. For example, at (See Datasheet)", 8 TEMP (out) "Temperature Output. This pin delivers a current proportional to the internal average junction temperature. Current output is 1uA/degreesC for temperatures above 5degreesC. The TEMP pin output current typically equals 25uA at (See Datasheet)", 9 IN (power) "Input. This pin supplies power to regulate internal circuitry and supply output load current. For the device to operate properly and regulate, the voltage on this pin must be between the dropout voltage and 36V above the OUT (See Datasheet)", 10 IN (power) "Input. This pin supplies power to regulate internal circuitry and supply output load current. For the device to operate properly and regulate, the voltage on this pin must be between the dropout voltage and 36V above the OUT (See Datasheet)", 11 IN (power) "Input. This pin supplies power to regulate internal circuitry and supply output load current. For the device to operate properly and regulate, the voltage on this pin must be between the dropout voltage and 36V above the OUT (See Datasheet)", 12 IN (power) "Input. This pin supplies power to regulate internal circuitry and supply output load current. For the device to operate properly and regulate, the voltage on this pin must be between the dropout voltage and 36V above the OUT (See Datasheet)", 13 OUT (power) "Output. The exposed pad of the DF and FE packages and the tab of the R and T7 packages are tied internally to OUT. As such, tie them directly to OUT (Pins 1-4/Pins 1-5, 8, 9, 16/Pin 4/Pin 4) at the PCB. The amount of copper (See Datasheet)"

## LT3081EFE#PBF
designator U?
1.5 A Single Resistor Rugged Linear Regulator with Monitor, 1.2 to 36 V Vin, Adjustable Vout, 16-pin SOP (FE-16-EPV-BB), -40 to 125 degC, Pb-Free; Manufacturer: Linear Technology; PartNumber: LT3081EFE#PBF; Discrete Pass Element: no; Dropout Voltage(V): 1.21; Iout(mA): 1500; Isupply(mA): 1.1; Noise(uV): 27; Number of Outputs: 1; Output Voltage: Adj; PSRR(dB): 90; Vin Max(V): 36; Vin Min(V): 1.2; Vout Max(V): 34.5; Vout Min(V): 0; PackageVersion: Rev. J, 11/2012; PackageReference: FE-16; PackageDescription: 16-Pin Plastic TSSOP, Body 5 x 4.4 mm, Pitch 0.65 mm; Supplier 1: Digi-Key; Supplier Part Number 1: LT3081EFE#PBF-ND; Supplier 2: Newark; Supplier Part Number 2: 94W8440; RoHS: TRUE; Mounting Technology: Surface Mount; ComponentLink1Description: Manufacturer URL; ComponentLink1URL: http://www.linear.com/; ComponentLink2Description: Datasheet; ComponentLink2URL: http://cds.linear.com/docs/en/datasheet/3081f.pdf; ComponentLink3Description: Package Specification; ComponentLink3URL: http://cds.linear.com/docs/en/packaging/05081663__J_FE16(BB).pdf
footprint LT-FE-16-EPV-BB_N (SOP, 16-Leads, Body 5.1x4.5mm, Pitch 0.65mm, Thermal Pad 3.58x2.94mm, IPC Medium Density)
footprint LT-FE-16-EPV-BB_L (SOP, 16-Leads, Body 5.1x4.5mm, Pitch 0.65mm, Thermal Pad 3.58x2.94mm, IPC High Density)
footprint LT-FE-16-EPV-BB_M (SOP, 16-Leads, Body 5.1x4.5mm, Pitch 0.65mm, Thermal Pad 3.58x2.94mm, IPC Low Density)
pins: 1 OUT (power) "Output. This is the power output of the device. The LT3081 requires a 5mA minimum load current for proper output regulation.", 2 OUT (power) "Output. This is the power output of the device. The LT3081 requires a 5mA minimum load current for proper output regulation.", 3 OUT (power) "Output. This is the power output of the device. The LT3081 requires a 5mA minimum load current for proper output regulation.", 4 OUT (power) "Output. This is the power output of the device. The LT3081 requires a 5mA minimum load current for proper output regulation.", 5 OUT (power) "Output. This is the power output of the device. The LT3081 requires a 5mA minimum load current for proper output regulation.", 6 ILIM (in) "Current Limit Program. A resistor between this pin and OUT programs output current limit to a level proportional to resistor value. Connect this resistor directly to OUT at the pins of the package. The typical ratio of (See Datasheet)", 7 SET (in) "Set. This pin is the error amplifier’s noninverting input and also sets the operating bias point of the circuit. A fixed 50uA current source flows out of this pin. A single external resistor programs VOUT. Output voltag(See Datasheet)", 8 OUT (power) "Output. This is the power output of the device. The LT3081 requires a 5mA minimum load current for proper output regulation.", 9 OUT (power) "Output. This is the power output of the device. The LT3081 requires a 5mA minimum load current for proper output regulation.", 10 IMON (out) "Output Current Monitor. The IMON pin sources a current typically equal to ILOAD/5000 or 200uA per amp of output current. Terminating this pin with a resistor to GND produces a voltage proportional to ILOAD. For example, at (See Datasheet)", 11 TEMP (out) "Temperature Output. This pin delivers a current proportional to the internal average junction temperature. Current output is 1uA/degreesC for temperatures above 5degreesC. The TEMP pin output current typically equals 25uA at (See Datasheet)", 12 IN (power) "Input. This pin supplies power to regulate internal circuitry and supply output load current. For the device to operate properly and regulate, the voltage on this pin must be between the dropout voltage and 36V above the OUT (See Datasheet)", 13 IN (power) "Input. This pin supplies power to regulate internal circuitry and supply output load current. For the device to operate properly and regulate, the voltage on this pin must be between the dropout voltage and 36V above the OUT (See Datasheet)", 14 IN (power) "Input. This pin supplies power to regulate internal circuitry and supply output load current. For the device to operate properly and regulate, the voltage on this pin must be between the dropout voltage and 36V above the OUT (See Datasheet)", 15 IN (power) "Input. This pin supplies power to regulate internal circuitry and supply output load current. For the device to operate properly and regulate, the voltage on this pin must be between the dropout voltage and 36V above the OUT (See Datasheet)", 16 OUT (power) "Output. This is the power output of the device. The LT3081 requires a 5mA minimum load current for proper output regulation.", 17 OUT (power) "Output. The exposed pad of the DF and FE packages and the tab of the R and T7 packages are tied internally to OUT. As such, tie them directly to OUT (Pins 1-4/Pins 1-5, 8, 9, 16/Pin 4/Pin 4) at the PCB. The amount of copper (See Datasheet)"

## LT3081EFE#TRPBF
designator U?
1.5 A Single Resistor Rugged Linear Regulator with Monitor, 1.2 to 36 V Vin, Adjustable Vout, 16-pin SOP (FE-16-EPV-BB), -40 to 125 degC, Pb-Free, Tape and Reel; Manufacturer: Linear Technology; PartNumber: LT3081EFE#TRPBF; Discrete Pass Element: no; Dropout Voltage(V): 1.21; Iout(mA): 1500; Isupply(mA): 1.1; Noise(uV): 27; Number of Outputs: 1; Output Voltage: Adj; PSRR(dB): 90; Vin Max(V): 36; Vin Min(V): 1.2; Vout Max(V): 34.5; Vout Min(V): 0; PackageVersion: Rev. J, 11/2012; PackageReference: FE-16; PackageDescription: 16-Pin Plastic TSSOP, Body 5 x 4.4 mm, Pitch 0.65 mm; Supplier 1: Digi-Key; Supplier Part Number 1: LT3081EFE#TRPBF-ND; Supplier 2: Newark; Supplier Part Number 2: 94W8441; Packing: Tape and Reel; RoHS: TRUE; Mounting Technology: Surface Mount; ComponentLink1Description: Manufacturer URL; ComponentLink1URL: http://www.linear.com/; ComponentLink2Description: Datasheet; ComponentLink2URL: http://cds.linear.com/docs/en/datasheet/3081f.pdf; ComponentLink3Description: Package Specification; ComponentLink3URL: http://cds.linear.com/docs/en/packaging/05081663__J_FE16(BB).pdf
footprint LT-FE-16-EPV-BB_N (SOP, 16-Leads, Body 5.1x4.5mm, Pitch 0.65mm, Thermal Pad 3.58x2.94mm, IPC Medium Density)
footprint LT-FE-16-EPV-BB_L (SOP, 16-Leads, Body 5.1x4.5mm, Pitch 0.65mm, Thermal Pad 3.58x2.94mm, IPC High Density)
footprint LT-FE-16-EPV-BB_M (SOP, 16-Leads, Body 5.1x4.5mm, Pitch 0.65mm, Thermal Pad 3.58x2.94mm, IPC Low Density)
pins: 1 OUT (power) "Output. This is the power output of the device. The LT3081 requires a 5mA minimum load current for proper output regulation.", 2 OUT (power) "Output. This is the power output of the device. The LT3081 requires a 5mA minimum load current for proper output regulation.", 3 OUT (power) "Output. This is the power output of the device. The LT3081 requires a 5mA minimum load current for proper output regulation.", 4 OUT (power) "Output. This is the power output of the device. The LT3081 requires a 5mA minimum load current for proper output regulation.", 5 OUT (power) "Output. This is the power output of the device. The LT3081 requires a 5mA minimum load current for proper output regulation.", 6 ILIM (in) "Current Limit Program. A resistor between this pin and OUT programs output current limit to a level proportional to resistor value. Connect this resistor directly to OUT at the pins of the package. The typical ratio of (See Datasheet)", 7 SET (in) "Set. This pin is the error amplifier’s noninverting input and also sets the operating bias point of the circuit. A fixed 50uA current source flows out of this pin. A single external resistor programs VOUT. Output voltag(See Datasheet)", 8 OUT (power) "Output. This is the power output of the device. The LT3081 requires a 5mA minimum load current for proper output regulation.", 9 OUT (power) "Output. This is the power output of the device. The LT3081 requires a 5mA minimum load current for proper output regulation.", 10 IMON (out) "Output Current Monitor. The IMON pin sources a current typically equal to ILOAD/5000 or 200uA per amp of output current. Terminating this pin with a resistor to GND produces a voltage proportional to ILOAD. For example, at (See Datasheet)", 11 TEMP (out) "Temperature Output. This pin delivers a current proportional to the internal average junction temperature. Current output is 1uA/degreesC for temperatures above 5degreesC. The TEMP pin output current typically equals 25uA at (See Datasheet)", 12 IN (power) "Input. This pin supplies power to regulate internal circuitry and supply output load current. For the device to operate properly and regulate, the voltage on this pin must be between the dropout voltage and 36V above the OUT (See Datasheet)", 13 IN (power) "Input. This pin supplies power to regulate internal circuitry and supply output load current. For the device to operate properly and regulate, the voltage on this pin must be between the dropout voltage and 36V above the OUT (See Datasheet)", 14 IN (power) "Input. This pin supplies power to regulate internal circuitry and supply output load current. For the device to operate properly and regulate, the voltage on this pin must be between the dropout voltage and 36V above the OUT (See Datasheet)", 15 IN (power) "Input. This pin supplies power to regulate internal circuitry and supply output load current. For the device to operate properly and regulate, the voltage on this pin must be between the dropout voltage and 36V above the OUT (See Datasheet)", 16 OUT (power) "Output. This is the power output of the device. The LT3081 requires a 5mA minimum load current for proper output regulation.", 17 OUT (power) "Output. The exposed pad of the DF and FE packages and the tab of the R and T7 packages are tied internally to OUT. As such, tie them directly to OUT (Pins 1-4/Pins 1-5, 8, 9, 16/Pin 4/Pin 4) at the PCB. The amount of copper (See Datasheet)"

## LT3081ER#PBF
designator U?
1.5 A Single Resistor Rugged Linear Regulator with Monitor, 1.2 to 36 V Vin, Adjustable Vout, 7-pin DPAK (R-7), -40 to 125 degC, Pb-Free; Manufacturer: Linear Technology; PartNumber: LT3081ER#PBF; Discrete Pass Element: no; Dropout Voltage(V): 1.21; Iout(mA): 1500; Isupply(mA): 1.1; Noise(uV): 27; Number of Outputs: 1; Output Voltage: Adj; PSRR(dB): 90; Vin Max(V): 36; Vin Min(V): 1.2; Vout Max(V): 34.5; Vout Min(V): 0; PackageVersion: Rev. F, 05/2012; PackageReference: R-7; PackageDescription: 7-Pin Plastic DD Pak, Body 10.2235 x 8.89 mm, Pitch 1.27 mm; Supplier 1: Digi-Key; Supplier Part Number 1: LT3081ER#PBF-ND; Supplier 2: Newark; Supplier Part Number 2: 94W8442; RoHS: TRUE; Mounting Technology: Surface Mount; ComponentLink1Description: Manufacturer URL; ComponentLink1URL: http://www.linear.com/; ComponentLink2Description: Datasheet; ComponentLink2URL: http://cds.linear.com/docs/en/datasheet/3081f.pdf; ComponentLink3Description: Package Specification; ComponentLink3URL: http://cds.linear.com/docs/en/packaging/05081462_F_R.pdf
footprint LT-R-7_N (DPAK, 7-Leads, Body 10.224x8.89mm, Pitch 1.27mm, IPC Medium Density)
footprint LT-R-7_L (DPAK, 7-Leads, Body 10.224x8.89mm, Pitch 1.27mm, IPC High Density)
footprint LT-R-7_M (DPAK, 7-Leads, Body 10.224x8.89mm, Pitch 1.27mm, IPC Low Density)
pins: 1 ILIM (in) "Current Limit Program. A resistor between this pin and OUT programs output current limit to a level proportional to resistor value. Connect this resistor directly to OUT at the pins of the package. The typical ratio of (See Datasheet)", 2 SET (in) "Set. This pin is the error amplifier’s noninverting input and also sets the operating bias point of the circuit. A fixed 50uA current source flows out of this pin. A single external resistor programs VOUT. Output voltag(See Datasheet)", 3 IMON (out) "Output Current Monitor. The IMON pin sources a current typically equal to ILOAD/5000 or 200uA per amp of output current. Terminating this pin with a resistor to GND produces a voltage proportional to ILOAD. For example, at (See Datasheet)", 4 OUT (power) "Output. This is the power output of the device. The LT3081 requires a 5mA minimum load current for proper output regulation.", 5 TEMP (out) "Temperature Output. This pin delivers a current proportional to the internal average junction temperature. Current output is 1uA/degC for temperatures above 5degC. The TEMP pin output current typically equals 25uA at 25degC. (See Datasheet)", 6 IN (power) "Input. This pin supplies power to regulate internal circuitry and supply output load current. For the device to operate properly and regulate, the voltage on this pin must be between the dropout voltage and 36V above the OUT (See Datasheet)", 7 NC "No Connection. No connect pins have no connection to internal circuitry and may be tied to IN, OUT, GND or floated.", 8 OUT (power) "Output. The exposed pad of the DF and FE packages and the tab of the R and T7 packages are tied internally to OUT. As such, tie them directly to OUT (Pins 1-4/Pins 1-5, 8, 9, 16/Pin 4/Pin 4) at the PCB. The amount of copper (See Datasheet)"